# Altium footprint library L_DM-1.2.PcbLib: 1 footprints
Each footprint in its own frame and in the unit in brackets; x right, y up, seen from the top. Pads: shape width x height; smd on the part's side, far side on the other; paste and mask are expansions set on the pad; w line width, h text height; cw(c..) or ccw(c..) is an arc to the next point about the centre after c.
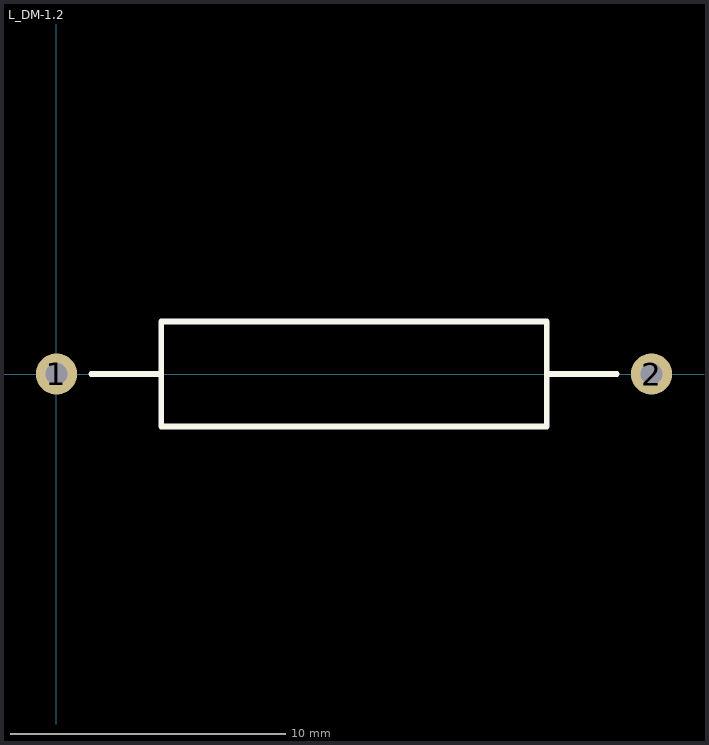
[diagram p0: the footprint, top view; thin cyan lines are the x and y axes]

## L_DM-1.2 [mm]
pads (2):
  round 1.5 hole 0.8: 1(0,0) 2(21.59,0)
Top Overlay:
  lines w0.2: 1.27,0 3.81,0 ; 17.78,0 20.32,0 ; 3.81,-1.905 17.78,-1.905 17.78,1.905 3.81,1.905 3.81,-1.905